# Altium schematic symbol library MQ135.SchLib: 1 symbol
Pins are listed as number, name and electrical type; pins without a type are passive.

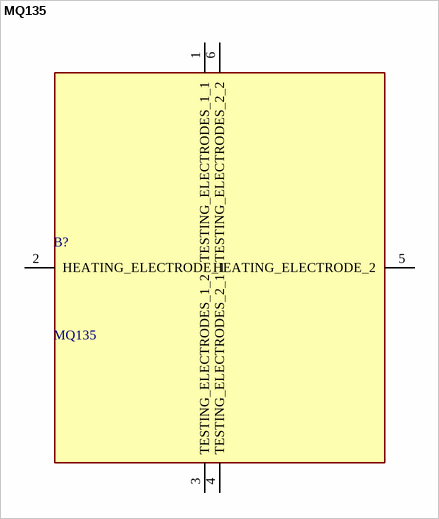
[diagram p0: symbol MQ135]

## MQ135
designator B?
Sensor: gas; ammonia (NH3),benzene; Range: 1010000ppm; MQ-135; Manufacturer_Name: WINSEN; Geometry.Height: 15mm; Manufacturer_Part_Number: MQ135; Mouser Part Number: *; Mouser Price/Stock: *; Arrow Part Number: *; Arrow Price/Stock: *; Datasheet Link: https://www.tme.eu/Document/2578fa81c261e398e9967a2f575c3ebe/MQ135.pdf
footprint MQ135
pins: 1 TESTING_ELECTRODES_1_1, 2 HEATING_ELECTRODE_1, 3 TESTING_ELECTRODES_1_2, 4 TESTING_ELECTRODES_2_1, 5 HEATING_ELECTRODE_2, 6 TESTING_ELECTRODES_2_2